# Altium footprint library Cap.PcbLib: 3 footprints
Each footprint in its own frame and in the unit in brackets; x right, y up, seen from the top. Pads: shape width x height; smd on the part's side, far side on the other; paste and mask are expansions set on the pad; w line width, h text height; cw(c..) or ccw(c..) is an arc to the next point about the centre after c.
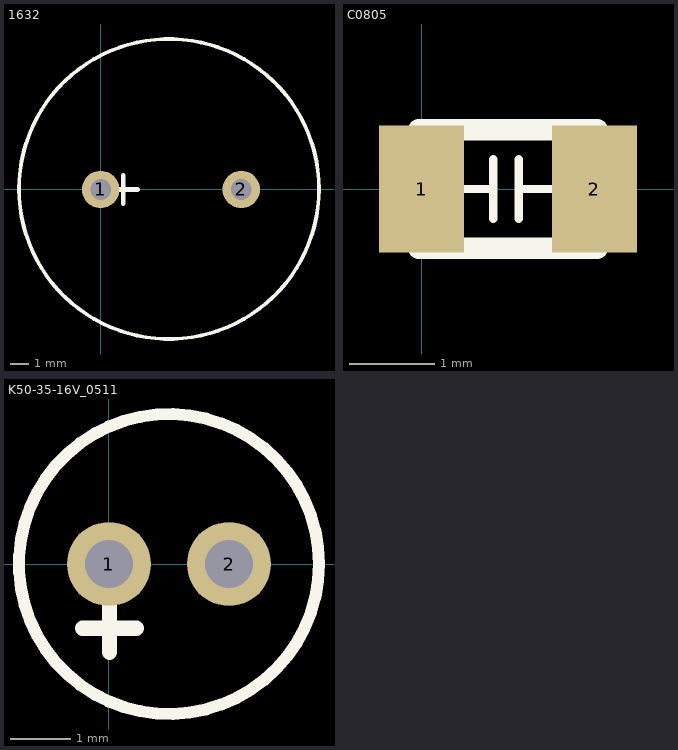
[diagram p0: the footprints below, top view; thin cyan lines are the x and y axes]

## 1632 [mm] "K50-35-25V_1632"
pads (2):
  round 2 hole 1.1: 1(0,0) 2(7.5,0)
Top Overlay:
  circle w0.2: c3.646,0.025 r8
  lines w0.254: 0.448,0 1.972,0 ; 1.21,-0.762 1.21,0.762

## C0805 [mm]
pads (2):
  rect 1x1.5 smd: 1(0,0) 2(2.032,0)
Top Overlay:
  lines w0.1: 0.39,0 0.84,0 ; 0.84,-0.35 0.84,0.35 ; 1.14,-0.35 1.14,0.35 ; 1.14,0 1.59,0
  lines w0.254: -0.034,-0.7 -0.034,0.7 2.066,0.7 2.066,-0.7 -0.034,-0.7

## K50-35-16V_0511 [mm]
pads (2):
  round 1.4 hole 0.8: 1(0,0) 2(2,0)
Top Overlay:
  circle w0.2: c1,0 r2.5
  lines w0.254: -0.44,-1.07 0.46,-1.07 ; 0.01,-1.47 0.01,-0.67